# Altium footprint library C091 connector.PcbLib: 1 footprints
Each footprint in its own frame and in the unit in brackets; x right, y up, seen from the top. Pads: shape width x height; smd on the part's side, far side on the other; paste and mask are expansions set on the pad; w line width, h text height; cw(c..) or ccw(c..) is an arc to the next point about the centre after c.
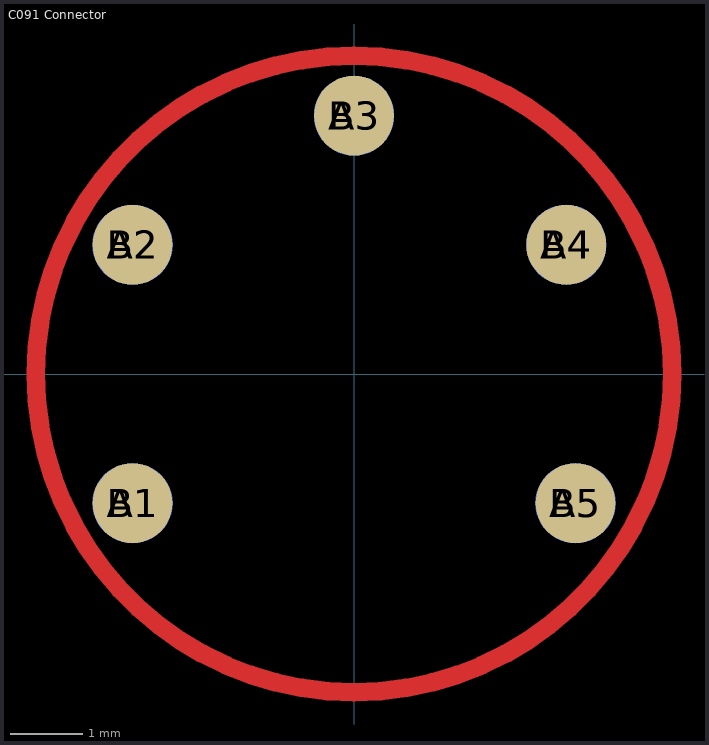
[diagram p0: the footprint, top view; thin cyan lines are the x and y axes]

## C091 Connector [mm]
pads (10):
  round 1.1 smd: A1(-3.048,-1.778) A2(-3.048,1.778) A3(0,3.556) A4(2.921,1.778) A5(3.048,-1.778)
  round 1.1 smd far side: B1(-3.048,-1.778) B2(-3.048,1.778) B3(0,3.556) B4(2.921,1.778) B5(3.048,-1.778)
Top Layer:
  circle w0.254: c0,0 r4.379